# EAGLE library part FR04-2 (library Domino)
2x4 Pin Female Receptacle
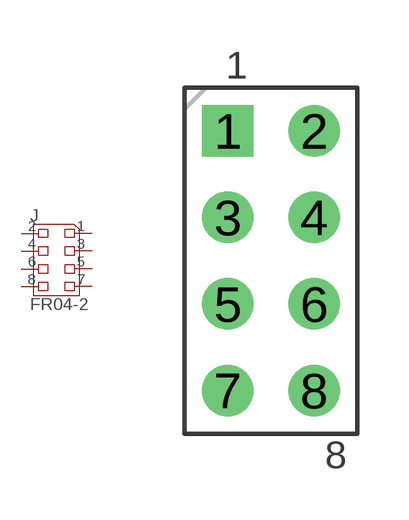
[diagram p16: symbol with the pads of FR04-2-0.1; footprint FR04-2-0.1]

Designator prefix J

## FR04-2  [FR04-2-0.1]
1  1  pas
2  2  pas
3  3  pas
4  4  pas
5  5  pas
6  6  pas
7  7  pas
8  8  pas

## Footprint FR04-2-0.1 (pad centres in mm)
2x4 Pin Female Receptacle, 0.1" Pitch
drill 1 square: 1 -1.27,3.81
drill 1: 2 1.27,3.81; 3 -1.27,1.27; 4 1.27,1.27; 5 -1.27,-1.27; 6 1.27,-1.27; 7 -1.27,-3.81; 8 1.27,-3.81